# Altium footprint library MX1.25.PcbLib: 64 footprints (part 2 of 4)
Each footprint in its own frame and in the unit in brackets; x right, y up, seen from the top. Pads: shape width x height; smd on the part's side, far side on the other; paste and mask are expansions set on the pad; w line width, h text height; cw(c..) or ccw(c..) is an arc to the next point about the centre after c.
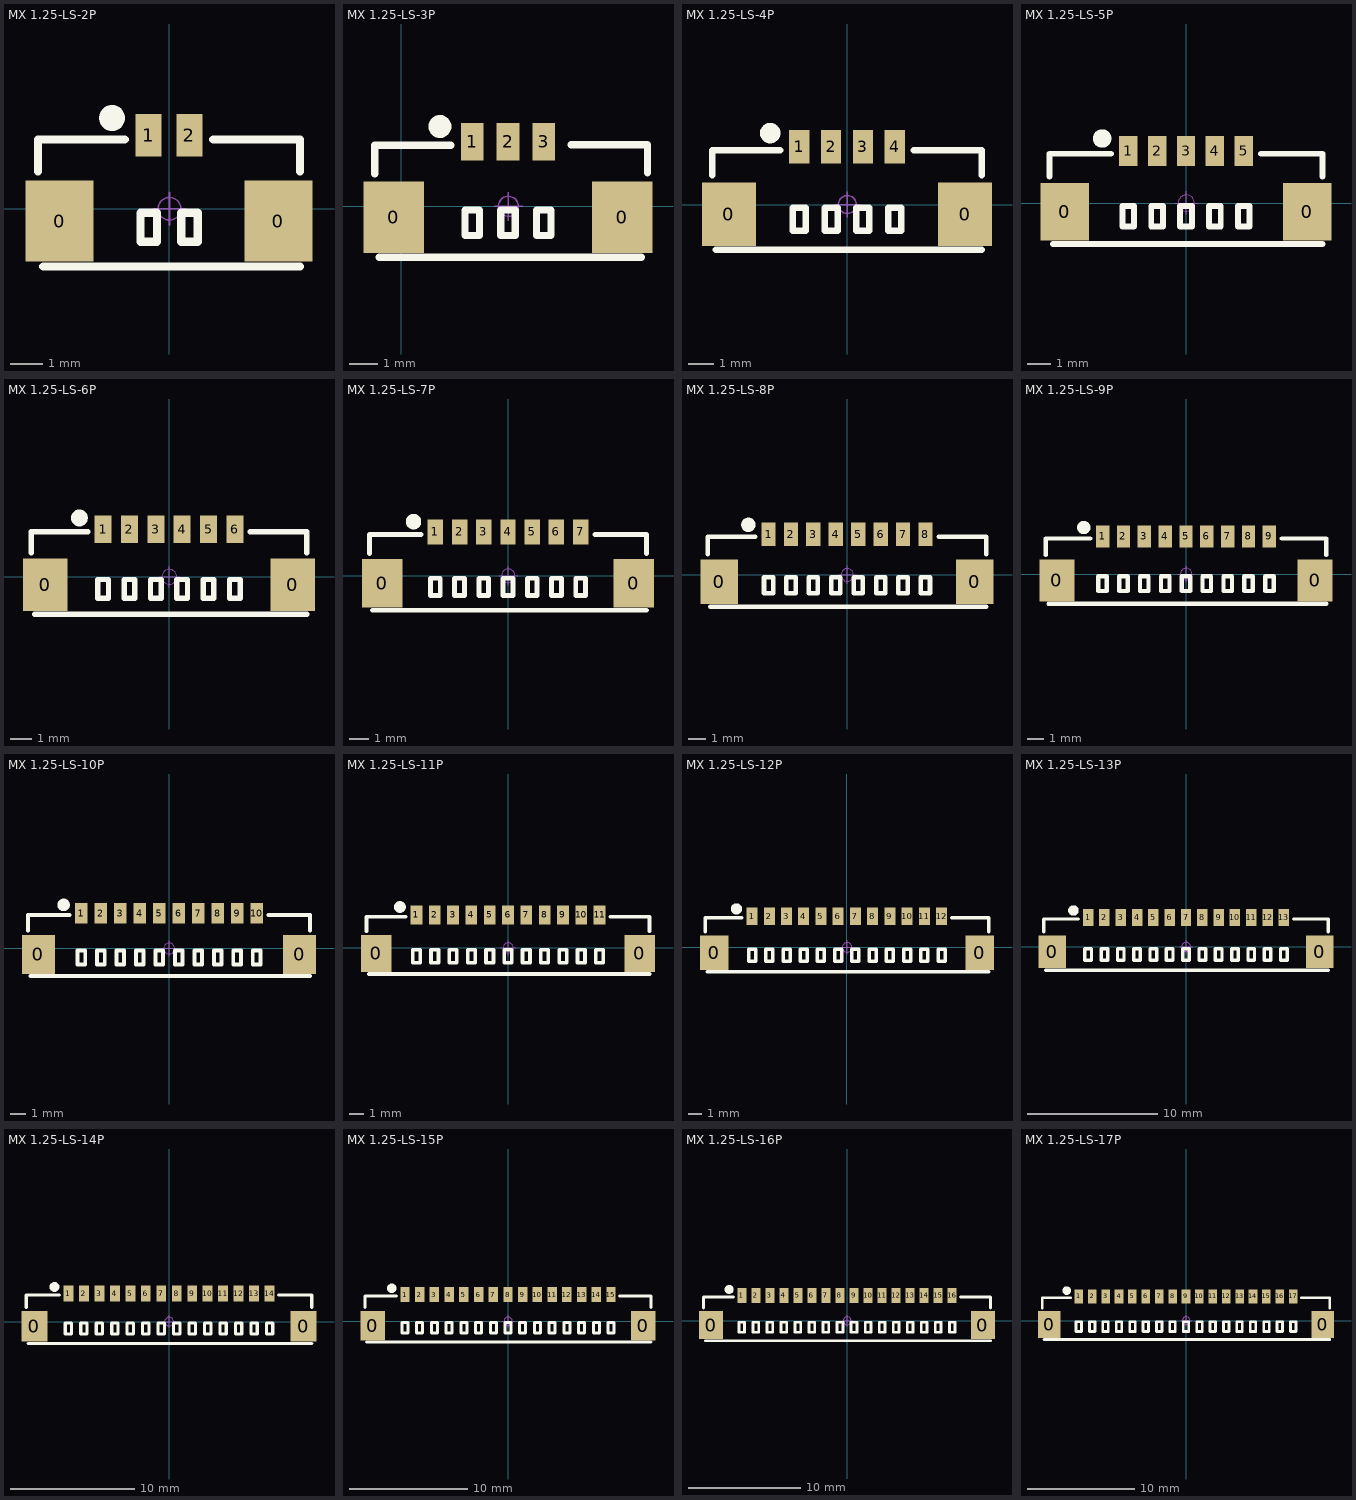
[diagram p1: the footprints below, top view; thin cyan lines are the x and y axes]

## MX 1.25-LS-2P [mm] "长：7.25m，宽：3.7mm，高：4.7mm"
pads (4):
  rect 2.1x2.5 smd: 0(-3.382,-0.381) 0(3.354,-0.381)
  rect 0.8x1.3 smd: 1(-0.639,2.261) 2(0.611,2.261)
Top Overlay:
  circle w0.4: c-1.767,2.794 r0.2
  lines w0.254: -4.045,1.143 -4.045,2.134 -1.378,2.134 ; -3.887,-1.778 4.02,-1.778 ; 1.35,2.134 4.017,2.134 4.017,1.143 ; -0.89,-1.016 -0.382,-1.016 -0.382,-0.127 -0.89,-0.127 -0.89,-1.016 ; 0.36,-1.016 0.36,-0.127 0.868,-0.127 0.868,-1.016 0.36,-1.016
Mechanical 15:
  circle w0.05: c0,0 r0.35
  lines w0.05: -0.5,0 0.5,0 ; 0,-0.5 0,0.5
3D body: height 4.7, standoff 0, extent -3.825,-1.6 3.825,2.5

## MX 1.25-LS-3P [mm] "长：8.5m，宽：3.7mm，高：4.7mm"
pads (5):
  rect 2.1x2.5 smd: 0(-0.254,-0.381) 0(7.732,-0.381)
  rect 0.8x1.3 smd: 1(2.489,2.261) 2(3.739,2.261) 3(4.989,2.261)
Top Overlay:
  circle w0.4: c1.361,2.794 r0.2
  lines w0.254: -0.917,1.143 -0.917,2.134 1.75,2.134 ; -0.762,-1.778 8.395,-1.778 ; 5.946,2.159 8.613,2.159 8.613,1.168 ; 2.235,-1.016 2.743,-1.016 2.743,-0.127 2.235,-0.127 2.235,-1.016 ; 3.485,-1.016 3.485,-0.127 3.993,-0.127 3.993,-1.016 3.485,-1.016 ; 4.735,-1.016 4.735,-0.127 5.243,-0.127 5.243,-1.016 4.735,-1.016
Mechanical 15:
  circle w0.05: c3.753,0 r0.35
  lines w0.05: 3.253,0 4.253,0 ; 3.753,-0.5 3.753,0.5
3D body: height 4.7, standoff 0, extent -0.697,-1.6 8.203,2.5

## MX 1.25-LS-4P [mm] "长：9.75m，宽：3.7mm，高：4.7mm"
pads (6):
  rect 2.1x2.5 smd: 0(-4.632,-0.381) 0(4.604,-0.381)
  rect 0.8x1.3 smd: 1(-1.889,2.261) 2(-0.639,2.261) 3(0.611,2.261) 4(1.861,2.261)
Top Overlay:
  circle w0.4: c-3.017,2.794 r0.2
  lines w0.254: -5.295,1.143 -5.295,2.134 -2.628,2.134 ; -5.14,-1.778 5.267,-1.778 ; 2.6,2.134 5.267,2.134 5.267,1.143 ; -2.143,-1.016 -2.143,-0.127 -1.635,-0.127 -1.635,-1.016 -2.143,-1.016 ; -0.893,-1.016 -0.385,-1.016 -0.385,-0.127 -0.893,-0.127 -0.893,-1.016 ; 0.357,-1.016 0.865,-1.016 0.865,-0.127 0.357,-0.127 0.357,-1.016 ; 1.607,-1.016 2.115,-1.016 2.115,-0.127 1.607,-0.127 1.607,-1.016
Mechanical 15:
  circle w0.05: c0,0 r0.35
  lines w0.05: -0.5,0 0.5,0 ; 0,-0.5 0,0.5
3D body: height 4.7, standoff 0, extent -5.075,-1.6 5.075,2.5

## MX 1.25-LS-5P [mm] "长：11m，宽：3.7mm，高：4.7mm"
pads (7):
  rect 2.1x2.5 smd: 0(-5.257,-0.381) 0(5.229,-0.381)
  rect 0.8x1.3 smd: 1(-2.514,2.261) 2(-1.264,2.261) 3(-0.014,2.261) 4(1.236,2.261) 5(2.486,2.261)
Top Overlay:
  circle w0.4: c-3.642,2.794 r0.2
  lines w0.254: -5.92,1.143 -5.92,2.134 -3.253,2.134 ; -5.765,-1.778 5.892,-1.778 ; 3.225,2.134 5.892,2.134 5.892,1.143 ; -2.768,-1.016 -2.26,-1.016 -2.26,-0.127 -2.768,-0.127 -2.768,-1.016 ; -1.518,-1.016 -1.518,-0.127 -1.01,-0.127 -1.01,-1.016 -1.518,-1.016 ; -0.268,-1.016 -0.268,-0.127 0.24,-0.127 0.24,-1.016 -0.268,-1.016 ; 0.982,-1.016 0.982,-0.127 1.49,-0.127 1.49,-1.016 0.982,-1.016 ; 2.232,-1.016 2.232,-0.127 2.74,-0.127 2.74,-1.016 2.232,-1.016
Mechanical 15:
  circle w0.05: c0,0 r0.35
  lines w0.05: -0.5,0 0.5,0 ; 0,-0.5 0,0.5
3D body: height 4.7, standoff 0, extent -5.7,-1.6 5.7,2.5

## MX 1.25-LS-6P [mm] "长：12.25m，宽：3.7mm，高：4.7mm"
pads (8):
  rect 2.1x2.5 smd: 0(-5.882,-0.381) 0(5.854,-0.381)
  rect 0.8x1.3 smd: 1(-3.139,2.261) 2(-1.889,2.261) 3(-0.639,2.261) 4(0.611,2.261) 5(1.861,2.261) 6(3.111,2.261)
Top Overlay:
  circle w0.4: c-4.267,2.794 r0.2
  lines w0.254: -6.545,1.143 -6.545,2.134 -3.878,2.134 ; -6.39,-1.778 6.517,-1.778 ; 3.85,2.134 6.517,2.134 6.517,1.143 ; -3.393,-1.016 -2.885,-1.016 -2.885,-0.127 -3.393,-0.127 -3.393,-1.016 ; -2.143,-1.016 -2.143,-0.127 -1.635,-0.127 -1.635,-1.016 -2.143,-1.016 ; -0.893,-1.016 -0.893,-0.127 -0.385,-0.127 -0.385,-1.016 -0.893,-1.016 ; 0.357,-1.016 0.357,-0.127 0.865,-0.127 0.865,-1.016 0.357,-1.016 ; 1.607,-1.016 1.607,-0.127 2.115,-0.127 2.115,-1.016 1.607,-1.016 ; 2.857,-1.016 2.857,-0.127 3.365,-0.127 3.365,-1.016 2.857,-1.016
Mechanical 15:
  circle w0.05: c0,0 r0.35
  lines w0.05: -0.5,0 0.5,0 ; 0,-0.5 0,0.5
3D body: height 4.7, standoff 0, extent -6.325,-1.6 6.325,2.5

## MX 1.25-LS-7P [mm] "长：13.5m，宽：3.7mm，高：4.7mm"
pads (9):
  rect 2.1x2.5 smd: 0(-6.507,-0.381) 0(6.479,-0.381)
  rect 0.8x1.3 smd: 1(-3.764,2.261) 2(-2.514,2.261) 3(-1.264,2.261) 4(-0.014,2.261) 5(1.236,2.261) 6(2.486,2.261) 7(3.736,2.261)
Top Overlay:
  circle w0.4: c-4.892,2.794 r0.2
  lines w0.254: -7.17,1.143 -7.17,2.134 -4.503,2.134 ; -7.015,-1.778 7.142,-1.778 ; 4.475,2.134 7.142,2.134 7.142,1.143 ; -4.018,-1.016 -4.018,-0.127 -3.51,-0.127 -3.51,-1.016 -4.018,-1.016 ; -2.768,-1.016 -2.26,-1.016 -2.26,-0.127 -2.768,-0.127 -2.768,-1.016 ; -1.518,-1.016 -1.01,-1.016 -1.01,-0.127 -1.518,-0.127 -1.518,-1.016 ; -0.268,-1.016 0.24,-1.016 0.24,-0.127 -0.268,-0.127 -0.268,-1.016 ; 0.982,-1.016 1.49,-1.016 1.49,-0.127 0.982,-0.127 0.982,-1.016 ; 2.232,-1.016 2.74,-1.016 2.74,-0.127 2.232,-0.127 2.232,-1.016 ; 3.482,-1.016 3.99,-1.016 3.99,-0.127 3.482,-0.127 3.482,-1.016
Mechanical 15:
  circle w0.05: c0,0 r0.35
  lines w0.05: -0.5,0 0.5,0 ; 0,-0.5 0,0.5
3D body: height 4.7, standoff 0, extent -6.95,-1.6 6.95,2.5

## MX 1.25-LS-8P [mm] "长：14.75m，宽：3.7mm，高：4.7mm"
pads (10):
  rect 2.1x2.5 smd: 0(-7.132,-0.381) 0(7.104,-0.381)
  rect 0.8x1.3 smd: 1(-4.389,2.261) 2(-3.139,2.261) 3(-1.889,2.261) 4(-0.639,2.261) 5(0.611,2.261) 6(1.861,2.261) 7(3.111,2.261) 8(4.361,2.261)
Top Overlay:
  circle w0.4: c-5.517,2.794 r0.2
  lines w0.254: -7.795,1.143 -7.795,2.134 -5.128,2.134 ; -7.64,-1.778 7.767,-1.778 ; 5.1,2.134 7.767,2.134 7.767,1.143 ; -4.643,-1.016 -4.643,-0.127 -4.135,-0.127 -4.135,-1.016 -4.643,-1.016 ; -3.393,-1.016 -2.885,-1.016 -2.885,-0.127 -3.393,-0.127 -3.393,-1.016 ; -2.143,-1.016 -1.635,-1.016 -1.635,-0.127 -2.143,-0.127 -2.143,-1.016 ; -0.893,-1.016 -0.385,-1.016 -0.385,-0.127 -0.893,-0.127 -0.893,-1.016 ; 0.357,-1.016 0.865,-1.016 0.865,-0.127 0.357,-0.127 0.357,-1.016 ; 1.607,-1.016 2.115,-1.016 2.115,-0.127 1.607,-0.127 1.607,-1.016 ; 2.857,-1.016 3.365,-1.016 3.365,-0.127 2.857,-0.127 2.857,-1.016 ; 4.107,-1.016 4.615,-1.016 4.615,-0.127 4.107,-0.127 4.107,-1.016
Mechanical 15:
  circle w0.05: c0,0 r0.35
  lines w0.05: -0.5,0 0.5,0 ; 0,-0.5 0,0.5
3D body: height 4.7, standoff 0, extent -7.575,-1.6 7.575,2.5

## MX 1.25-LS-9P [mm] "长：16m，宽：3.7mm，高：4.7mm"
pads (11):
  rect 2.1x2.5 smd: 0(-7.757,-0.381) 0(7.729,-0.381)
  rect 0.8x1.3 smd: 1(-5.014,2.261) 2(-3.764,2.261) 3(-2.514,2.261) 4(-1.264,2.261) 5(-0.014,2.261) 6(1.236,2.261) 7(2.486,2.261) 8(3.736,2.261) 9(4.986,2.261)
Top Overlay:
  circle w0.4: c-6.142,2.794 r0.2
  lines w0.254: -8.42,1.143 -8.42,2.134 -5.753,2.134 ; -8.265,-1.778 8.392,-1.778 ; 5.725,2.134 8.392,2.134 8.392,1.143 ; -5.268,-1.016 -5.268,-0.127 -4.76,-0.127 -4.76,-1.016 -5.268,-1.016 ; -4.018,-1.016 -3.51,-1.016 -3.51,-0.127 -4.018,-0.127 -4.018,-1.016 ; -2.768,-1.016 -2.26,-1.016 -2.26,-0.127 -2.768,-0.127 -2.768,-1.016 ; -1.518,-1.016 -1.01,-1.016 -1.01,-0.127 -1.518,-0.127 -1.518,-1.016 ; -0.268,-1.016 0.24,-1.016 0.24,-0.127 -0.268,-0.127 -0.268,-1.016 ; 0.982,-1.016 1.49,-1.016 1.49,-0.127 0.982,-0.127 0.982,-1.016 ; 2.232,-1.016 2.74,-1.016 2.74,-0.127 2.232,-0.127 2.232,-1.016 ; 3.482,-1.016 3.99,-1.016 3.99,-0.127 3.482,-0.127 3.482,-1.016 ; 4.732,-1.016 5.24,-1.016 5.24,-0.127 4.732,-0.127 4.732,-1.016
Mechanical 15:
  circle w0.05: c0,0 r0.35
  lines w0.05: -0.5,0 0.5,0 ; 0,-0.5 0,0.5
3D body: height 4.7, standoff 0, extent -8.2,-1.6 8.2,2.5

## MX 1.25-LS-10P [mm] "长：17.25m，宽：3.7mm，高：4.7mm"
pads (12):
  rect 2.1x2.5 smd: 0(-8.382,-0.381) 0(8.354,-0.381)
  rect 0.8x1.3 smd: 1(-5.639,2.261) 2(-4.389,2.261) 3(-3.139,2.261) 4(-1.889,2.261) 5(-0.639,2.261) 6(0.611,2.261) 7(1.861,2.261) 8(3.111,2.261) 9(4.361,2.261) 10(5.611,2.261)
Top Overlay:
  circle w0.4: c-6.767,2.794 r0.2
  lines w0.254: -9.045,1.143 -9.045,2.134 -6.378,2.134 ; -8.89,-1.778 9.017,-1.778 ; 6.35,2.134 9.017,2.134 9.017,1.143 ; -5.893,-1.016 -5.893,-0.127 -5.385,-0.127 -5.385,-1.016 -5.893,-1.016 ; -4.643,-1.016 -4.135,-1.016 -4.135,-0.127 -4.643,-0.127 -4.643,-1.016 ; -3.393,-1.016 -2.885,-1.016 -2.885,-0.127 -3.393,-0.127 -3.393,-1.016 ; -2.143,-1.016 -1.635,-1.016 -1.635,-0.127 -2.143,-0.127 -2.143,-1.016 ; -0.893,-1.016 -0.385,-1.016 -0.385,-0.127 -0.893,-0.127 -0.893,-1.016 ; 0.357,-1.016 0.865,-1.016 0.865,-0.127 0.357,-0.127 0.357,-1.016 ; 1.607,-1.016 2.115,-1.016 2.115,-0.127 1.607,-0.127 1.607,-1.016 ; 2.857,-1.016 3.365,-1.016 3.365,-0.127 2.857,-0.127 2.857,-1.016 ; 4.107,-1.016 4.615,-1.016 4.615,-0.127 4.107,-0.127 4.107,-1.016 ; 5.357,-1.016 5.865,-1.016 5.865,-0.127 5.357,-0.127 5.357,-1.016
Mechanical 15:
  circle w0.05: c0,0 r0.35
  lines w0.05: -0.5,0 0.5,0 ; 0,-0.5 0,0.5
3D body: height 4.7, standoff 0, extent -8.825,-1.6 8.825,2.5

## MX 1.25-LS-11P [mm] "长：18.5mm，宽：3.7mm，高：4.7mm"
pads (13):
  rect 2.1x2.5 smd: 0(-9.007,-0.381) 0(8.979,-0.381)
  rect 0.8x1.3 smd: 1(-6.264,2.261) 2(-5.014,2.261) 3(-3.764,2.261) 4(-2.514,2.261) 5(-1.264,2.261) 6(-0.014,2.261) 7(1.236,2.261) 8(2.486,2.261) 9(3.736,2.261) 10(4.986,2.261) 11(6.236,2.261)
Top Overlay:
  circle w0.4: c-7.392,2.794 r0.2
  lines w0.254: -9.67,1.143 -9.67,2.134 -7.003,2.134 ; -9.515,-1.778 9.642,-1.778 ; 6.975,2.134 9.642,2.134 9.642,1.143 ; -6.518,-1.016 -6.518,-0.127 -6.01,-0.127 -6.01,-1.016 -6.518,-1.016 ; -5.268,-1.016 -4.76,-1.016 -4.76,-0.127 -5.268,-0.127 -5.268,-1.016 ; -4.018,-1.016 -3.51,-1.016 -3.51,-0.127 -4.018,-0.127 -4.018,-1.016 ; -2.768,-1.016 -2.26,-1.016 -2.26,-0.127 -2.768,-0.127 -2.768,-1.016 ; -1.518,-1.016 -1.01,-1.016 -1.01,-0.127 -1.518,-0.127 -1.518,-1.016 ; -0.268,-1.016 0.24,-1.016 0.24,-0.127 -0.268,-0.127 -0.268,-1.016 ; 0.982,-1.016 1.49,-1.016 1.49,-0.127 0.982,-0.127 0.982,-1.016 ; 2.232,-1.016 2.74,-1.016 2.74,-0.127 2.232,-0.127 2.232,-1.016 ; 3.482,-1.016 3.99,-1.016 3.99,-0.127 3.482,-0.127 3.482,-1.016 ; 4.732,-1.016 5.24,-1.016 5.24,-0.127 4.732,-0.127 4.732,-1.016 ; 5.982,-1.016 5.982,-0.127 6.49,-0.127 6.49,-1.016 5.982,-1.016
Mechanical 15:
  circle w0.05: c0,0 r0.35
  lines w0.05: -0.5,0 0.5,0 ; 0,-0.5 0,0.5
3D body: height 4.7, standoff 0, extent -9.45,-1.6 9.45,2.5

## MX 1.25-LS-12P [mm] "长：19.75mm，宽：3.7mm，高：4.7mm"
pads (14):
  rect 2.1x2.5 smd: 0(-9.632,-0.381) 0(9.632,-0.381)
  rect 0.8x1.3 smd: 1(-6.889,2.261) 2(-5.639,2.261) 3(-4.389,2.261) 4(-3.139,2.261) 5(-1.889,2.261) 6(-0.639,2.261) 7(0.611,2.261) 8(1.861,2.261) 9(3.111,2.261) 10(4.361,2.261) 11(5.611,2.261) 12(6.861,2.261)
Top Overlay:
  circle w0.4: c-8.017,2.794 r0.2
  lines w0.254: -10.295,1.143 -10.295,2.134 -7.628,2.134 ; -10.14,-1.778 10.267,-1.778 ; 7.6,2.134 10.267,2.134 10.267,1.143 ; -7.143,-1.016 -7.143,-0.127 -6.635,-0.127 -6.635,-1.016 -7.143,-1.016 ; -5.893,-1.016 -5.385,-1.016 -5.385,-0.127 -5.893,-0.127 -5.893,-1.016 ; -4.643,-1.016 -4.135,-1.016 -4.135,-0.127 -4.643,-0.127 -4.643,-1.016 ; -3.393,-1.016 -2.885,-1.016 -2.885,-0.127 -3.393,-0.127 -3.393,-1.016 ; -2.143,-1.016 -1.635,-1.016 -1.635,-0.127 -2.143,-0.127 -2.143,-1.016 ; -0.893,-1.016 -0.385,-1.016 -0.385,-0.127 -0.893,-0.127 -0.893,-1.016 ; 0.357,-1.016 0.865,-1.016 0.865,-0.127 0.357,-0.127 0.357,-1.016 ; 1.607,-1.016 2.115,-1.016 2.115,-0.127 1.607,-0.127 1.607,-1.016 ; 2.857,-1.016 3.365,-1.016 3.365,-0.127 2.857,-0.127 2.857,-1.016 ; 4.107,-1.016 4.615,-1.016 4.615,-0.127 4.107,-0.127 4.107,-1.016 ; 5.357,-1.016 5.357,-0.127 5.865,-0.127 5.865,-1.016 5.357,-1.016 ; 6.607,-1.016 7.115,-1.016 7.115,-0.127 6.607,-0.127 6.607,-1.016
Mechanical 15:
  circle w0.05: c0,0 r0.35
  lines w0.05: -0.5,0 0.5,0 ; 0,-0.5 0,0.5
3D body: height 4.7, standoff 0, extent -10.075,-1.6 10.075,2.5

## MX 1.25-LS-13P [mm] "长：21mm，宽：3.7mm，高：4.7mm"
pads (15):
  rect 2.1x2.5 smd: 0(-10.257,-0.381) 0(10.229,-0.381)
  rect 0.8x1.3 smd: 1(-7.514,2.261) 2(-6.264,2.261) 3(-5.014,2.261) 4(-3.764,2.261) 5(-2.514,2.261) 6(-1.264,2.261) 7(-0.014,2.261) 8(1.236,2.261) 9(2.486,2.261) 10(3.736,2.261) 11(4.986,2.261) 12(6.236,2.261) 13(7.486,2.261)
Top Overlay:
  circle w0.4: c-8.642,2.794 r0.2
  lines w0.254: -10.92,1.143 -10.92,2.134 -8.253,2.134 ; -10.765,-1.778 10.892,-1.778 ; 8.225,2.134 10.892,2.134 10.892,1.143 ; -7.768,-1.016 -7.768,-0.127 -7.26,-0.127 -7.26,-1.016 -7.768,-1.016 ; -6.518,-1.016 -6.01,-1.016 -6.01,-0.127 -6.518,-0.127 -6.518,-1.016 ; -5.268,-1.016 -4.76,-1.016 -4.76,-0.127 -5.268,-0.127 -5.268,-1.016 ; -4.018,-1.016 -3.51,-1.016 -3.51,-0.127 -4.018,-0.127 -4.018,-1.016 ; -2.768,-1.016 -2.26,-1.016 -2.26,-0.127 -2.768,-0.127 -2.768,-1.016 ; -1.518,-1.016 -1.01,-1.016 -1.01,-0.127 -1.518,-0.127 -1.518,-1.016 ; -0.268,-1.016 0.24,-1.016 0.24,-0.127 -0.268,-0.127 -0.268,-1.016 ; 0.982,-1.016 1.49,-1.016 1.49,-0.127 0.982,-0.127 0.982,-1.016 ; 2.232,-1.016 2.74,-1.016 2.74,-0.127 2.232,-0.127 2.232,-1.016 ; 3.482,-1.016 3.99,-1.016 3.99,-0.127 3.482,-0.127 3.482,-1.016 ; 4.732,-1.016 4.732,-0.127 5.24,-0.127 5.24,-1.016 4.732,-1.016 ; 5.982,-1.016 6.49,-1.016 6.49,-0.127 5.982,-0.127 5.982,-1.016 ; 7.232,-1.016 7.232,-0.127 7.74,-0.127 7.74,-1.016 7.232,-1.016
Mechanical 15:
  circle w0.05: c0,0 r0.35
  lines w0.05: -0.5,0 0.5,0 ; 0,-0.5 0,0.5
3D body: height 4.7, standoff 0, extent -10.7,-1.6 10.7,2.5

## MX 1.25-LS-14P [mm] "长：22.25mm，宽：3.7mm，高：4.7mm"
pads (16):
  rect 2.1x2.5 smd: 0(-10.882,-0.381) 0(10.854,-0.381)
  rect 0.8x1.3 smd: 1(-8.139,2.261) 2(-6.889,2.261) 3(-5.639,2.261) 4(-4.389,2.261) 5(-3.139,2.261) 6(-1.889,2.261) 7(-0.639,2.261) 8(0.611,2.261) 9(1.861,2.261) 10(3.111,2.261) 11(4.361,2.261) 12(5.611,2.261) 13(6.861,2.261) 14(8.111,2.261)
Top Overlay:
  circle w0.4: c-9.267,2.794 r0.2
  lines w0.254: -11.545,1.143 -11.545,2.134 -8.878,2.134 ; -11.39,-1.778 11.517,-1.778 ; 8.85,2.134 11.517,2.134 11.517,1.143 ; -8.393,-1.016 -7.885,-1.016 -7.885,-0.127 -8.393,-0.127 -8.393,-1.016 ; -7.143,-1.016 -7.143,-0.127 -6.635,-0.127 -6.635,-1.016 -7.143,-1.016 ; -5.893,-1.016 -5.893,-0.127 -5.385,-0.127 -5.385,-1.016 -5.893,-1.016 ; -4.643,-1.016 -4.643,-0.127 -4.135,-0.127 -4.135,-1.016 -4.643,-1.016 ; -3.393,-1.016 -3.393,-0.127 -2.885,-0.127 -2.885,-1.016 -3.393,-1.016 ; -2.143,-1.016 -2.143,-0.127 -1.635,-0.127 -1.635,-1.016 -2.143,-1.016 ; -0.893,-1.016 -0.893,-0.127 -0.385,-0.127 -0.385,-1.016 -0.893,-1.016 ; 0.357,-1.016 0.357,-0.127 0.865,-0.127 0.865,-1.016 0.357,-1.016 ; 1.607,-1.016 1.607,-0.127 2.115,-0.127 2.115,-1.016 1.607,-1.016 ; 2.857,-1.016 2.857,-0.127 3.365,-0.127 3.365,-1.016 2.857,-1.016 ; 4.107,-1.016 4.615,-1.016 4.615,-0.127 4.107,-0.127 4.107,-1.016 ; 5.357,-1.016 5.357,-0.127 5.865,-0.127 5.865,-1.016 5.357,-1.016 ; 6.607,-1.016 7.115,-1.016 7.115,-0.127 6.607,-0.127 6.607,-1.016 ; 7.857,-1.016 7.857,-0.127 8.365,-0.127 8.365,-1.016 7.857,-1.016
Mechanical 15:
  circle w0.05: c0,0 r0.35
  lines w0.05: -0.5,0 0.5,0 ; 0,-0.5 0,0.5
3D body: height 4.7, standoff 0, extent -11.325,-1.6 11.325,2.5

## MX 1.25-LS-15P [mm] "长：23.5mm，宽：3.7mm，高：4.7mm"
pads (17):
  rect 2.1x2.5 smd: 0(-11.507,-0.381) 0(11.479,-0.381)
  rect 0.8x1.3 smd: 1(-8.764,2.261) 2(-7.514,2.261) 3(-6.264,2.261) 4(-5.014,2.261) 5(-3.764,2.261) 6(-2.514,2.261) 7(-1.264,2.261) 8(-0.014,2.261) 9(1.236,2.261) 10(2.486,2.261) 11(3.736,2.261) 12(4.986,2.261) 13(6.236,2.261) 14(7.486,2.261) 15(8.736,2.261)
Top Overlay:
  circle w0.4: c-9.892,2.794 r0.2
  lines w0.254: -12.17,1.143 -12.17,2.134 -9.503,2.134 ; -12.015,-1.778 12.142,-1.778 ; 9.475,2.134 12.142,2.134 12.142,1.143 ; -9.018,-1.016 -8.51,-1.016 -8.51,-0.127 -9.018,-0.127 -9.018,-1.016 ; -7.768,-1.016 -7.768,-0.127 -7.26,-0.127 -7.26,-1.016 -7.768,-1.016 ; -6.518,-1.016 -6.518,-0.127 -6.01,-0.127 -6.01,-1.016 -6.518,-1.016 ; -5.268,-1.016 -5.268,-0.127 -4.76,-0.127 -4.76,-1.016 -5.268,-1.016 ; -4.018,-1.016 -4.018,-0.127 -3.51,-0.127 -3.51,-1.016 -4.018,-1.016 ; -2.768,-1.016 -2.768,-0.127 -2.26,-0.127 -2.26,-1.016 -2.768,-1.016 ; -1.518,-1.016 -1.518,-0.127 -1.01,-0.127 -1.01,-1.016 -1.518,-1.016 ; -0.268,-1.016 -0.268,-0.127 0.24,-0.127 0.24,-1.016 -0.268,-1.016 ; 0.982,-1.016 0.982,-0.127 1.49,-0.127 1.49,-1.016 0.982,-1.016 ; 2.232,-1.016 2.232,-0.127 2.74,-0.127 2.74,-1.016 2.232,-1.016 ; 3.482,-1.016 3.99,-1.016 3.99,-0.127 3.482,-0.127 3.482,-1.016 ; 4.732,-1.016 4.732,-0.127 5.24,-0.127 5.24,-1.016 4.732,-1.016 ; 5.982,-1.016 6.49,-1.016 6.49,-0.127 5.982,-0.127 5.982,-1.016 ; 7.232,-1.016 7.232,-0.127 7.74,-0.127 7.74,-1.016 7.232,-1.016 ; 8.482,-1.016 8.482,-0.127 8.99,-0.127 8.99,-1.016 8.482,-1.016
Mechanical 15:
  circle w0.05: c0,0 r0.35
  lines w0.05: -0.5,0 0.5,0 ; 0,-0.5 0,0.5
3D body: height 4.7, standoff 0, extent -11.95,-1.6 11.95,2.5

## MX 1.25-LS-16P [mm] "长：24.75mm，宽：3.7mm，高：4.7mm"
pads (18):
  rect 2.1x2.5 smd: 0(-12.132,-0.381) 0(12.104,-0.381)
  rect 0.8x1.3 smd: 1(-9.389,2.261) 2(-8.139,2.261) 3(-6.889,2.261) 4(-5.639,2.261) 5(-4.389,2.261) 6(-3.139,2.261) 7(-1.889,2.261) 8(-0.639,2.261) 9(0.611,2.261) 10(1.861,2.261) 11(3.111,2.261) 12(4.361,2.261) 13(5.611,2.261) 14(6.861,2.261) 15(8.111,2.261) 16(9.361,2.261)
Top Overlay:
  circle w0.4: c-10.517,2.794 r0.2
  lines w0.254: -12.795,1.143 -12.795,2.134 -10.128,2.134 ; -12.64,-1.778 12.767,-1.778 ; 10.1,2.134 12.767,2.134 12.767,1.143 ; -9.643,-1.016 -9.135,-1.016 -9.135,-0.127 -9.643,-0.127 -9.643,-1.016 ; -8.393,-1.016 -8.393,-0.127 -7.885,-0.127 -7.885,-1.016 -8.393,-1.016 ; -7.143,-1.016 -7.143,-0.127 -6.635,-0.127 -6.635,-1.016 -7.143,-1.016 ; -5.893,-1.016 -5.893,-0.127 -5.385,-0.127 -5.385,-1.016 -5.893,-1.016 ; -4.643,-1.016 -4.643,-0.127 -4.135,-0.127 -4.135,-1.016 -4.643,-1.016 ; -3.393,-1.016 -3.393,-0.127 -2.885,-0.127 -2.885,-1.016 -3.393,-1.016 ; -2.143,-1.016 -2.143,-0.127 -1.635,-0.127 -1.635,-1.016 -2.143,-1.016 ; -0.893,-1.016 -0.893,-0.127 -0.385,-0.127 -0.385,-1.016 -0.893,-1.016 ; 0.357,-1.016 0.357,-0.127 0.865,-0.127 0.865,-1.016 0.357,-1.016 ; 1.607,-1.016 1.607,-0.127 2.115,-0.127 2.115,-1.016 1.607,-1.016 ; 2.857,-1.016 3.365,-1.016 3.365,-0.127 2.857,-0.127 2.857,-1.016 ; 4.107,-1.016 4.107,-0.127 4.615,-0.127 4.615,-1.016 4.107,-1.016 ; 5.357,-1.016 5.865,-1.016 5.865,-0.127 5.357,-0.127 5.357,-1.016 ; 6.607,-1.016 6.607,-0.127 7.115,-0.127 7.115,-1.016 6.607,-1.016 ; 7.857,-1.016 7.857,-0.127 8.365,-0.127 8.365,-1.016 7.857,-1.016 ; 9.107,-1.016 9.615,-1.016 9.615,-0.127 9.107,-0.127 9.107,-1.016
Mechanical 15:
  circle w0.05: c0,0 r0.35
  lines w0.05: -0.5,0 0.5,0 ; 0,-0.5 0,0.5
3D body: height 4.7, standoff 0, extent -12.575,-1.6 12.575,2.5

## MX 1.25-LS-17P [mm] "长：26mm，宽：3.7mm，高：4.7mm"
pads (19):
  rect 2.1x2.5 smd: 0(-12.757,-0.381) 0(12.729,-0.381)
  rect 0.8x1.3 smd: 1(-10.014,2.261) 2(-8.764,2.261) 3(-7.514,2.261) 4(-6.264,2.261) 5(-5.014,2.261) 6(-3.764,2.261) 7(-2.514,2.261) 8(-1.264,2.261) 9(-0.014,2.261) 10(1.236,2.261) 11(2.486,2.261) 12(3.736,2.261) 13(4.986,2.261) 14(6.236,2.261) 15(7.486,2.261) 16(8.736,2.261) 17(9.986,2.261)
Top Overlay:
  circle w0.4: c-11.142,2.794 r0.2
  lines w0.254: -13.42,1.143 -13.42,2.134 -10.753,2.134 ; -13.265,-1.778 13.392,-1.778 ; 10.725,2.134 13.392,2.134 13.392,1.143 ; -10.268,-1.016 -9.76,-1.016 -9.76,-0.127 -10.268,-0.127 -10.268,-1.016 ; -9.018,-1.016 -9.018,-0.127 -8.51,-0.127 -8.51,-1.016 -9.018,-1.016 ; -7.768,-1.016 -7.768,-0.127 -7.26,-0.127 -7.26,-1.016 -7.768,-1.016 ; -6.518,-1.016 -6.518,-0.127 -6.01,-0.127 -6.01,-1.016 -6.518,-1.016 ; -5.268,-1.016 -5.268,-0.127 -4.76,-0.127 -4.76,-1.016 -5.268,-1.016 ; -4.018,-1.016 -4.018,-0.127 -3.51,-0.127 -3.51,-1.016 -4.018,-1.016 ; -2.768,-1.016 -2.768,-0.127 -2.26,-0.127 -2.26,-1.016 -2.768,-1.016 ; -1.518,-1.016 -1.518,-0.127 -1.01,-0.127 -1.01,-1.016 -1.518,-1.016 ; -0.268,-1.016 -0.268,-0.127 0.24,-0.127 0.24,-1.016 -0.268,-1.016 ; 0.982,-1.016 0.982,-0.127 1.49,-0.127 1.49,-1.016 0.982,-1.016 ; 2.232,-1.016 2.74,-1.016 2.74,-0.127 2.232,-0.127 2.232,-1.016 ; 3.482,-1.016 3.482,-0.127 3.99,-0.127 3.99,-1.016 3.482,-1.016 ; 4.732,-1.016 5.24,-1.016 5.24,-0.127 4.732,-0.127 4.732,-1.016 ; 5.982,-1.016 5.982,-0.127 6.49,-0.127 6.49,-1.016 5.982,-1.016 ; 7.232,-1.016 7.232,-0.127 7.74,-0.127 7.74,-1.016 7.232,-1.016 ; 8.482,-1.016 8.99,-1.016 8.99,-0.127 8.482,-0.127 8.482,-1.016 ; 9.732,-1.016 9.732,-0.127 10.24,-0.127 10.24,-1.016 9.732,-1.016
Mechanical 15:
  circle w0.05: c0,0 r0.35
  lines w0.05: -0.5,0 0.5,0 ; 0,-0.5 0,0.5
3D body: height 4.7, standoff 0, extent -13.2,-1.6 13.2,2.5